# Altium schematic symbol library LTC4095.SchLib: 1 symbol
Pins are listed as number, name and electrical type; pins without a type are passive.

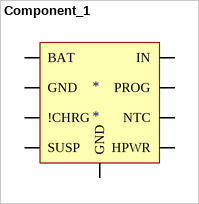
[diagram p0: symbol Component_1]

## Component_1
designator *
footprint LTC4095 (Standalone USB Li-Ion/Polymer Battery Charger  in 2mm × 2mm DFN)
pins: 1 BAT, 2 GND, 3 !CHRG, 4 SUSP, 5 HPWR, 6 NTC, 7 PROG, 8 IN, 9 GND